# Altium schematic symbol library WA-SMCH.SchLib: 1 symbol
Pins are listed as number, name and electrical type; pins without a type are passive.

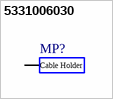
[diagram p0: symbol 5331006030]

## 5331006030
designator MP?  (value not drawn)
WA-SMCH Surface Mount Cable Holder; Manufacturer: Wurth Elektronik; Surface: Tin; Solder Cream Thickness Min: 120um; Manufacturer Part Number: 5331006030; Category: Cable Holders; Match Code: WA-SMCH; ComponentLink1Description: Website Link; ComponentLink1URL: https://www.we-online.com/redexpert/article/5331006030?ad; ComponentLink2Description: Datasheet Link; ComponentLink2URL: https://www.we-online.com/redexpert/spec/5331006030?ad; Mount: Surface Mount; Operating Temperature Min: -55°C; Operating Temperature Max: 150°C; Packaging: Tape and Reel; Length: 10mm; Width: 6mm; Height: 3mm; Material: Phosphor Bronze
footprint 5331006030
pins: 1
text: Cable Holder